# EAGLE library part RASPBERRY_PI_PICO (library FaBo-Boards)
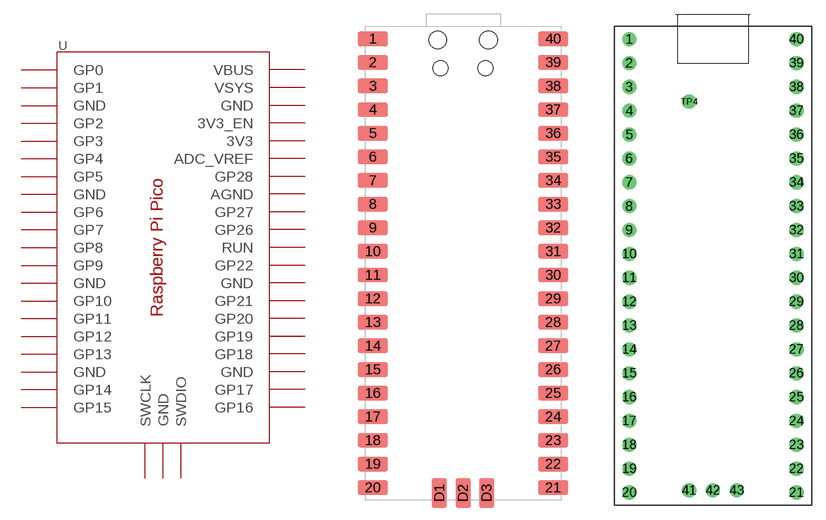
[diagram p14: symbol with the pads of RASPBERRY_PI_PICO_SMD; footprints RASPBERRY_PI_PICO_SMD, RASPBERRY_PI_PICO_HEADER]

Designator prefix U

## RASPBERRY_PI_PICO  [RASPBERRY_PI_PICO_SMD]

## RASPBERRY_PI_PICOPDM  [RASPBERRY_PI_PICO_HEADER]

## RASPBERRY_PI_PICORASPBERRY_PI_PICO_SMD_PDM  [RASPBERRY_PI_PICO_SMD_PDM]

## RASPBERRY_PI_PICORASPBERRY_PI_PICO_2BY20TH  [RASPBERRY_PI_PICO_HEADER_BOTH]
1  GP0
2  GP1
3  GND
4  GP2
5  GP3
6  GP4
7  GP5
8  GND
9  GP6
10  GP7
11  GP8
12  GP9
13  GND
14  GP10
15  GP11
16  GP12
17  GP13
18  GND
19  GP14
20  GP15
21  GP16
22  GP17
23  GND
24  GP18
25  GP19
26  GP20
27  GP21
28  GND
29  GP22
30  RUN
31  GP26
32  GP27
33  AGND
34  GP28
35  ADC_VREF
36  3V3
37  3V3_EN
38  GND
39  VSYS
40  VBUS
41  SWCLK
42  GND
43  SWDIO

## Footprint RASPBERRY_PI_PICO_SMD (pad centres in mm)
smd 3.2 x 1.6: 1 -9.69,24.13; 2 -9.69,21.59; 3 -9.69,19.05; 4 -9.69,16.51; 5 -9.69,13.97; 6 -9.69,11.43; 7 -9.69,8.89; 8 -9.69,6.35; 9 -9.69,3.81; 10 -9.69,1.27; 11 -9.69,-1.27; 12 -9.69,-3.81; 13 -9.69,-6.35; 14 -9.69,-8.89; 15 -9.69,-11.43; 16 -9.69,-13.97; 17 -9.69,-16.51; 18 -9.69,-19.05; 19 -9.69,-21.59; 20 -9.69,-24.13; 21 9.69,-24.13; 22 9.69,-21.59; 23 9.69,-19.05; 24 9.69,-16.51; 25 9.69,-13.97; 26 9.69,-11.43; 27 9.69,-8.89; 28 9.69,-6.35; 29 9.69,-3.81; 30 9.69,-1.27; 31 9.69,1.27; 32 9.69,3.81; 33 9.69,6.35; 34 9.69,8.89; 35 9.69,11.43; 36 9.69,13.97; 37 9.69,16.51; 38 9.69,19.05; 39 9.69,21.59; 40 9.69,24.13
smd 1.6 x 3.2: D1 -2.54,-24.7; D2 0,-24.7; D3 2.54,-24.7
hole 1.9 at 2.725,24
hole 1.9 at -2.725,24
hole 1.6 at 2.425,20.97
hole 1.6 at -2.425,20.97

## Footprint RASPBERRY_PI_PICO_HEADER (pad centres in mm)
drill 1: 1 -8.89,24.13; 2 -8.89,21.59; 3 -8.89,19.05; 4 -8.89,16.51; 5 -8.89,13.97; 6 -8.89,11.43; 7 -8.89,8.89; 8 -8.89,6.35; 9 -8.89,3.81; 10 -8.89,1.27; 11 -8.89,-1.27; 12 -8.89,-3.81; 13 -8.89,-6.35; 14 -8.89,-8.89; 15 -8.89,-11.43; 16 -8.89,-13.97; 17 -8.89,-16.51; 18 -8.89,-19.05; 19 -8.89,-21.59; 20 -8.89,-24.13; 21 8.89,-24.13; 22 8.89,-21.59; 23 8.89,-19.05; 24 8.89,-16.51; 25 8.89,-13.97; 26 8.89,-11.43; 27 8.89,-8.89; 28 8.89,-6.35; 29 8.89,-3.81; 30 8.89,-1.27; 31 8.89,1.27; 32 8.89,3.81; 33 8.89,6.35; 34 8.89,8.89; 35 8.89,11.43; 36 8.89,13.97; 37 8.89,16.51; 38 8.89,19.05; 39 8.89,21.59; 40 8.89,24.13; 41 -2.54,-23.9; 42 0,-23.9; 43 2.54,-23.9; TP4 -2.54,17.462

## Footprint RASPBERRY_PI_PICO_SMD_PDM (pad centres in mm)
smd 3.2 x 1.6: 1 -9.69,25.4; 2 -9.69,22.86; 3 -9.69,20.32; 4 -9.69,17.78; 5 -9.69,15.24; 6 -9.69,12.7; 7 -9.69,10.16; 8 -9.69,7.62; 9 -9.69,5.08; 10 -9.69,2.54; 11 -9.69,0; 12 -9.69,-2.54; 13 -9.69,-5.08; 14 -9.69,-7.62; 15 -9.69,-10.16; 16 -9.69,-12.7; 17 -9.69,-15.24; 18 -9.69,-17.78; 19 -9.69,-20.32; 20 -9.69,-22.86; 21 9.69,-22.86; 22 9.69,-20.32; 23 9.69,-17.78; 24 9.69,-15.24; 25 9.69,-12.7; 26 9.69,-10.16; 27 9.69,-7.62; 28 9.69,-5.08; 29 9.69,-2.54; 30 9.69,0; 31 9.69,2.54; 32 9.69,5.08; 33 9.69,7.62; 34 9.69,10.16; 35 9.69,12.7; 36 9.69,15.24; 37 9.69,17.78; 38 9.69,20.32; 39 9.69,22.86; 40 9.69,25.4
smd 1.6 x 3.2: D1 -2.54,-23.43; D2 0,-23.43; D3 2.54,-23.43
drill 1.27 square: P$1 -2.54,18.733
hole 1.9 at 2.725,25.27
hole 1.9 at -2.725,25.27
hole 1.6 at 2.425,22.24
hole 1.6 at -2.425,22.24

## Footprint RASPBERRY_PI_PICO_HEADER_BOTH (pad centres in mm)
drill 1: 1 -8.89,24.13; 2 -8.89,21.59; 3 -8.89,19.05; 4 -8.89,16.51; 5 -8.89,13.97; 6 -8.89,11.43; 7 -8.89,8.89; 8 -8.89,6.35; 9 -8.89,3.81; 10 -8.89,1.27; 11 -8.89,-1.27; 12 -8.89,-3.81; 13 -8.89,-6.35; 14 -8.89,-8.89; 15 -8.89,-11.43; 16 -8.89,-13.97; 17 -8.89,-16.51; 18 -8.89,-19.05; 19 -8.89,-21.59; 20 -8.89,-24.13; 21 8.89,-24.13; 22 8.89,-21.59; 23 8.89,-19.05; 24 8.89,-16.51; 25 8.89,-13.97; 26 8.89,-11.43; 27 8.89,-8.89; 28 8.89,-6.35; 29 8.89,-3.81; 30 8.89,-1.27; 31 8.89,1.27; 32 8.89,3.81; 33 8.89,6.35; 34 8.89,8.89; 35 8.89,11.43; 36 8.89,13.97; 37 8.89,16.51; 38 8.89,19.05; 39 8.89,21.59; 40 8.89,24.13; 41 -2.54,-23.9; 42 0,-23.9; 43 2.54,-23.9; 44 -11.43,24.13; 45 -11.43,21.59; 46 -11.43,19.05; 47 -11.43,16.51; 48 -11.43,13.97; 49 -11.43,11.43; 50 -11.43,8.89; 51 -11.43,6.35; 52 -11.43,3.81; 53 -11.43,1.27; 54 -11.43,-1.27; 55 -11.43,-3.81; 56 -11.43,-6.35; 57 -11.43,-8.89; 58 -11.43,-11.43; 59 -11.43,-13.97; 60 -11.43,-16.51; 61 -11.43,-19.05; 62 -11.43,-21.59; 63 -11.43,-24.13; 64 11.43,24.13; 65 11.43,21.59; 66 11.43,19.05; 67 11.43,16.51; 68 11.43,13.97; 69 11.43,11.43; 70 11.43,8.89; 71 11.43,6.35; 72 11.43,3.81; 73 11.43,1.27; 74 11.43,-1.27; 75 11.43,-3.81; 76 11.43,-6.35; 77 11.43,-8.89; 78 11.43,-11.43; 79 11.43,-13.97; 80 11.43,-16.51; 81 11.43,-19.05; 82 11.43,-21.59; 83 11.43,-24.13; 84 -2.54,-26.44; 85 0,-26.44; 86 2.54,-26.44